# Altium schematic symbol library PoE24V.SchLib: 1 symbol
Pins are listed as number, name and electrical type; pins without a type are passive.

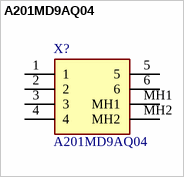
[diagram p0: symbol A201MD9AQ04]

## A201MD9AQ04
designator X?
Switch,toggle,2P,on on,PCB mount,5A; Manufacturer_Name: TE Connectivity; Geometry.Height: 11.43mm; Mouser Part Number: 506-1825138-7; Mouser Price/Stock: https://www.mouser.co.uk/ProductDetail/TE-Connectivity-PB/A201MD9AQ04?qs=9WkjXeXHXGxOUODOe4WanA%3D%3D; Manufacturer_Part_Number: A201MD9AQ04; Datasheet Link: https://www.te.com/commerce/DocumentDelivery/DDEController?Action=showdoc&DocId=Customer+Drawing%7F1825138%7FA5%7Fpdf%7FEnglish%7FENG_CD_1825138_A5_baseFilename.pdf%7F1825138-7
footprint A201MD9AQ04
pins: 1, 2, 3, 4, 5, 6, MH1, MH2